# EAGLE library part IMS-DMS-PREAMP_REV2 (library di_pcb)
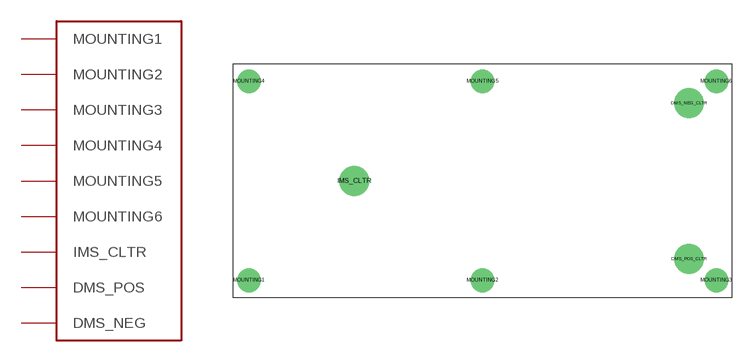
[diagram p2: symbol with the pads of IMS-DMS_PREAMP_REV2; footprint IMS-DMS_PREAMP_REV2]

Designator prefix -

## IMS-DMS-PREAMP_REV2  [IMS-DMS_PREAMP_REV2]
DMS_NEG_CLTR  DMS_NEG
DMS_POS_CLTR  DMS_POS
IMS_CLTR  IMS_CLTR
MOUNTING1  MOUNTING1
MOUNTING2  MOUNTING2
MOUNTING3  MOUNTING3
MOUNTING4  MOUNTING4
MOUNTING5  MOUNTING5
MOUNTING6  MOUNTING6

## Footprint IMS-DMS_PREAMP_REV2 (pad centres in mm)
drill 2.5 pad 4.064: DMS_NEG_CLTR 62.2,26.65; DMS_POS_CLTR 62.2,5.35; IMS_CLTR 16.5,16
drill 2.2 pad 3: MOUNTING1 2.1,2.4; MOUNTING2 34,2.4; MOUNTING3 65.92,2.4; MOUNTING4 2.1,29.6; MOUNTING5 34,29.6; MOUNTING6 65.92,29.6